# Altium integrated library CRSwitch.IntLib: 1 symbol
Pins are listed as number, name and electrical type; pins without a type are passive.

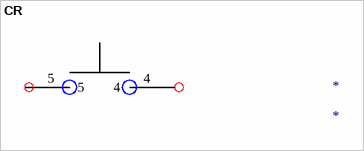
[diagram p0: symbol CR]

## CR
designator *
footprint SPGA48x11 - duplicate
pins: 4, 5